# EAGLE library part DS18B20U (library Sensor)
Programmable Resolution 1-Wire Digital Thermometer. Datasheet <https://datasheets.maximintegrated.com/en/ds/DS18B20.pdf>
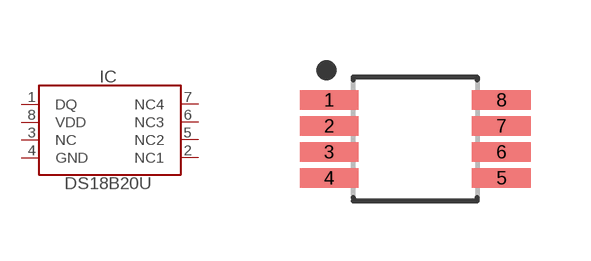
[diagram p3: symbol with the pads of SOP65P491X110-8N; footprint SOP65P491X110-8N]

Designator prefix IC

## DS18B20U_SOP (VALUE: DS18B20)  [SOP65P491X110-8N]
1  DQ
2  NC1
3  NC
4  GND
5  NC2
6  NC3
7  NC4
8  VDD

## Footprint SOP65P491X110-8N (pad centres in mm)
8-SOP, 0.65 mm pitch, 4.91 mm span, 3.00 X 3.00 X 1.10 mm body 8-pin SOP package with 0.65 mm pitch, 4.91 mm span with body size 3.00 X 3.00 X 1.10 mm
smd 1.472 x 0.485: 1 -2.155,0.975; 2 -2.155,0.325; 3 -2.155,-0.325; 4 -2.155,-0.975; 5 2.155,-0.975; 6 2.155,-0.325; 7 2.155,0.325; 8 2.155,0.975